# Altium schematic symbol library Component Library.SchLib: 14 symbols
Pins are listed as number, name and electrical type; pins without a type are passive.

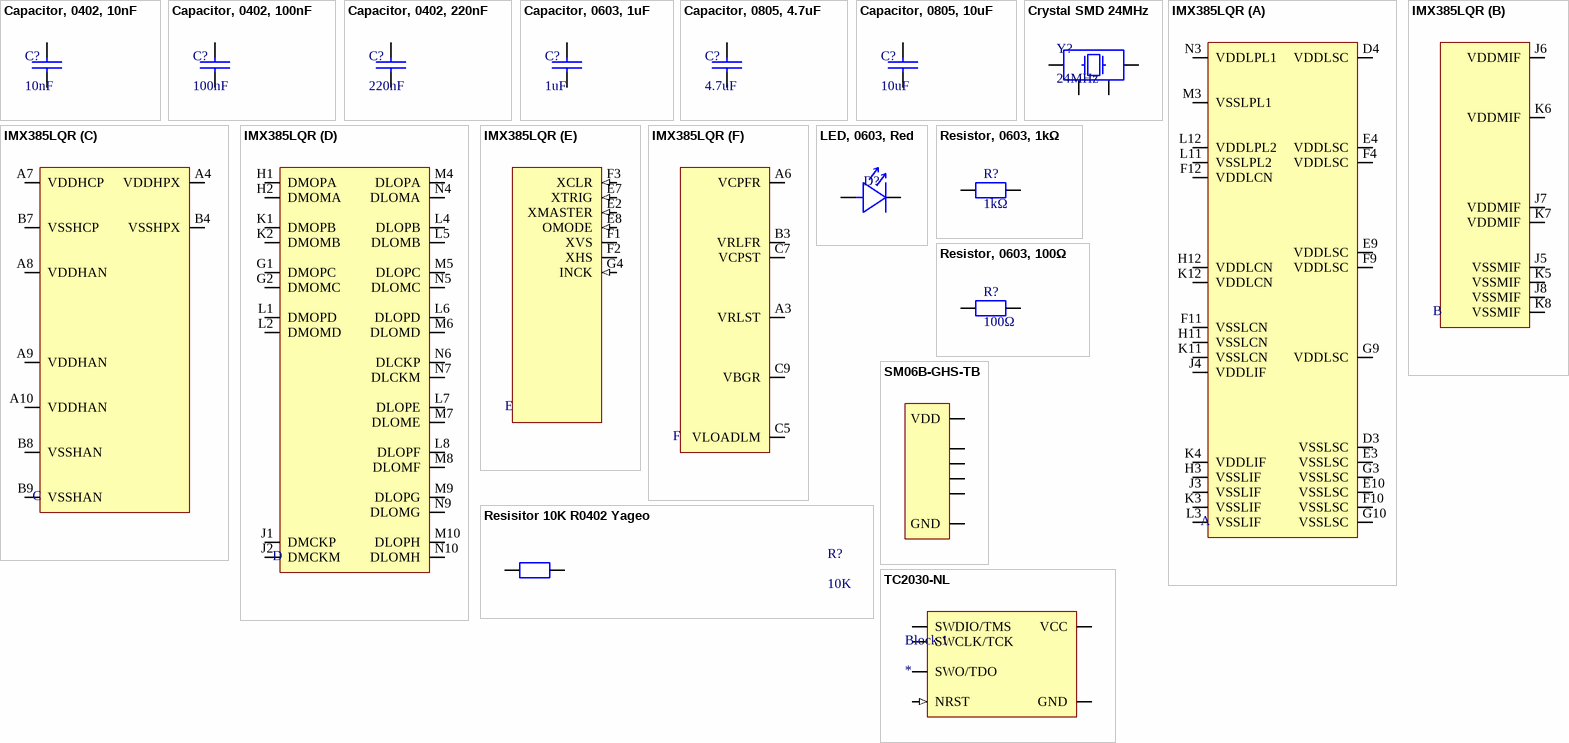
[diagram p0: symbols Capacitor, 0402, 10nF to TC2030-NL]

## Capacitor, 0402, 10nF
designator C?, comment 10nF
Ceramic Capacitor, 16V, 10% +/- Tol, X7R, 10nF, SMD, 0402, #CL05B103KO5NNNC, JLC#C318577; Capacitance: 100nF
footprint Capacitor, 0402, 10nF
pins: 9, 10

## Capacitor, 0402, 100nF
designator C?, comment 100nF
Ceramic Capacitor, 16V, 10% +/- Tol, X7R, 0.1uF, SMD, 0402, #CL05B104KO5NNNC, JLC#C1525; Capacitance: 100nF
footprint Capacitor, 0402, 100nF (Chip Capacitor, 2-Leads, Body 1.05x0.55mm, IPC Medium Density)
pins: 9, 10

## Capacitor, 0402, 220nF
designator C?, comment 220nF
Ceramic Capacitor, 16V, 10% +/- Tol, X7R, 220nF, SMD, 0402, #CL05B224KO5NNNC, JLC# / C16772; Capacitance: 100nF
footprint Capacitor, 0402, 220nF
pins: 9, 10

## Capacitor, 0603, 1uF
designator C?, comment 1uF
Ceramic Capacitor, 16V, 10% +/- Tol, X7R, 1uF, SMD, 0603, #CL10B105KO8NNNC, JLC#C59782; Capacitance: 100nF
footprint Capacitor, 0603, 1uF
pins: 9, 10

## Capacitor, 0805, 4.7uF
designator C?, comment 4.7uF
Ceramic Capacitor, 16V, 10% +/- Tol, X7R, 4.7uF, SMD, 0805, #CL21B475KOFNNNE, JLC#C107365; Capacitance: 100nF
footprint Capacitor, 0805, 4.7uF
pins: 9, 10

## Capacitor, 0805, 10uF
designator C?, comment 10uF
Ceramic Capacitor, 16V, 10% +/- Tol, X7R, 10uF, SMD, 0805, #CL21B106KOQNNNE, JLC#C95841; Capacitance: 100nF
footprint Capacitor, 0805, 10uF
pins: 9, 10

## Crystal SMD 24MHz
designator Y?, comment 24MHz
Crystal SMD 24MHz / X322524MOB4SI
footprint FP-ABM8G-MFG
pins: 3, 4, 5, 6

## IMX385LQR
designator ?
footprint IMX385LQR
part A pins: D3 VSSLSC, D4 VDDLSC, E3 VSSLSC, E4 VDDLSC, E9 VDDLSC, E10 VSSLSC, F4 VDDLSC, F9 VDDLSC, F10 VSSLSC, F11 VSSLCN, F12 VDDLCN, G3 VSSLSC, G9 VDDLSC, G10 VSSLSC, H3 VSSLIF, H11 VSSLCN, H12 VDDLCN, J3 VSSLIF, J4 VDDLIF, K3 VSSLIF, K4 VDDLIF, K11 VSSLCN, K12 VDDLCN, L3 VSSLIF, L11 VSSLPL2, L12 VDDLPL2, M3 VSSLPL1, N3 VDDLPL1
part B pins: J5 VSSMIF, J6 VDDMIF, J7 VDDMIF, J8 VSSMIF, K5 VSSMIF, K6 VDDMIF, K7 VDDMIF, K8 VSSMIF
part C pins: A4 VDDHPX, A7 VDDHCP, A8 VDDHAN, A9 VDDHAN, A10 VDDHAN, B4 VSSHPX, B7 VSSHCP, B8 VSSHAN, B9 VSSHAN
part D pins: G1 DMOPC, G2 DMOMC, H1 DMOPA, H2 DMOMA, J1 DMCKP, J2 DMCKM, K1 DMOPB, K2 DMOMB, L1 DMOPD, L2 DMOMD, L4 DLOPB, L5 DLOMB, L6 DLOPD, L7 DLOPE, L8 DLOPF, M4 DLOPA, M5 DLOPC, M6 DLOMD, M7 DLOME, M8 DLOMF, M9 DLOPG, M10 DLOPH, N4 DLOMA, N5 DLOMC, N6 DLCKP, N7 DLCKM, N9 DLOMG, N10 DLOMH
part E pins: E2 XMASTER (in), E7 XTRIG (in), E8 OMODE (in), F1 XVS (io), F2 XHS (io), F3 XCLR (in), G4 INCK (in)
part F pins: A3 VRLST, A6 VCPFR, B3 VRLFR, C5 VLOADLM, C7 VCPST, C9 VBGR

## LED, 0603, Red
designator D?
footprint Led, 0603
pins: 13, 14

## Resisitor 10K R0402 Yageo
designator R?, comment 10K
Fixed Resistor, Metal Glaze/thick Film, 0.0625W, 10000ohm, 50V, 1% +/-Tol, 100ppm/Cel, Surface Mount, 0402; Manufacturer: Yageo; Manufacturer Part Number: RC0603FR-0710KL; Additional Feature: LASER TRIMMABLE; Power: 100mW; Rated Temperature: 70°C; Value: 10kR; Working Voltage: 75V; Temperature Coefficient (ppm/Cel): 100; Package Height: 0.45mm; Package Length: 1.6mm; Package Width: 0.8mm; Supplier: Future Electronics; Supplier Part Number: 4023214; RoHS: Yes; Category: Chip SMD Resistors; Stock: 97670000; Pricing: 5000=0,0011, 25000=0,0011, 125000=0,001, 250000=0,001, 750000=0,001 (USD); Mounting Technology: Surface Mount; Pins: 2; Package Shape: Rectangular; Case/Package: 0603; Terminal Finish: Nickel; Min Operating Temperature: -55°C; Max Operating Temperature: 155°C; Tolerance: 1%; JESD-609 Code: e3; Resistor Type: FIXED RESISTOR; Construction: Chip; Packaging: Tape and Reel; Technology: METAL GLAZE/THICK FILM; Termination: Wraparound; Reach SVHC Compliant: Yes; RoHS Compliant: Yes; ComponentLink1URL: https://datasheet.ciiva.com:443/pdfs/VipMasterIC/IC/YAGO/YAGO-S-A0008145938/YAGO-S-A0008145938-1.pdf?src-supplier=IHS+Markit; ComponentLink1Description: https://datasheet.ciiva.com:443/pdfs/VipMasterIC/IC/YAGO/YAGO-S-A0008145938/YAGO-S-A0008145938-1.pdf?src-supplier=IHS+Markit; ComponentLink2URL: https://datasheet.ciiva.com/46440/1868787-46440891.pdf?src-supplier=Element14; ComponentLink2Description: https://datasheet.ciiva.com/46440/1868787-46440891.pdf?src-supplier=Element14; ComponentLink3URL: https://datasheet.ciiva.com/7746/1738695-7746239.pdf?src-supplier=Element14; ComponentLink3Description: https://datasheet.ciiva.com/7746/1738695-7746239.pdf?src-supplier=Element14; ComponentLink4URL: https://datasheet.ciiva.com/7983/443971-7983596.pdf?src-supplier=Element14; ComponentLink4Description: https://datasheet.ciiva.com/7983/443971-7983596.pdf?src-supplier=Element14; ComponentLink5URL: https://datasheet.ciiva.com/7660/38590-7660789.pdf?src-supplier=Element14; ComponentLink5Description: https://datasheet.ciiva.com/7660/38590-7660789.pdf?src-supplier=Element14; ComponentLink6URL: https://datasheet.ciiva.com/22747/443971-22747519.pdf?src-supplier=Element14; ComponentLink6Description: https://datasheet.ciiva.com/22747/443971-22747519.pdf?src-supplier=Element14; ComponentLink7URL: https://datasheet.ciiva.com/15189/getdatasheetpartid-409289-15189591.pdf?src-supplier=Verical; ComponentLink7Description: https://datasheet.ciiva.com/15189/getdatasheetpartid-409289-15189591.pdf?src-supplier=Verical; ComponentLink8URL: https://datasheet.ciiva.com/7660/38568-7660787.pdf?src-supplier=Element14; ComponentLink8Description: https://datasheet.ciiva.com/7660/38568-7660787.pdf?src-supplier=Element14; ComponentLink9URL: https://datasheet.ciiva.com/7849/1686128-7849814.pdf?src-supplier=Element14; ComponentLink9Description: https://datasheet.ciiva.com/7849/1686128-7849814.pdf?src-supplier=Element14; ComponentLink10URL: https://datasheet.ciiva.com/7983/1018594-7983486.pdf?src-supplier=Element14; ComponentLink10Description: https://datasheet.ciiva.com/7983/1018594-7983486.pdf?src-supplier=Element14; ComponentLink11URL: https://datasheet.ciiva.com/22747/1018594-22747512.pdf?src-supplier=Element14; ComponentLink11Description: https://datasheet.ciiva.com/22747/1018594-22747512.pdf?src-supplier=Element14; ComponentLink12URL: https://datasheet.ciiva.com/12667/pyu-rc0402-51-rohs-l-6-r-12667067.pdf?src-supplier=Mouser; ComponentLink12Description: https://datasheet.ciiva.com/12667/pyu-rc0402-51-rohs-l-6-r-12667067.pdf?src-supplier=Mouser; ComponentLink13URL: https://datasheet.ciiva.com/7849/1784430-7849813.pdf?src-supplier=Element14; ComponentLink13Description: https://datasheet.ciiva.com/7849/1784430-7849813.pdf?src-supplier=Element14; ComponentLink14URL: https://datasheet.ciiva.com/7849/1784430-7849815.pdf?src-supplier=Element14; ComponentLink14Description: https://datasheet.ciiva.com/7849/1784430-7849815.pdf?src-supplier=Element14
footprint Resistor 0402 Yageo (Chip Resistor, 2-Leads, Body 1,00x0,50mm, IPC Medium Density)
pins: 1, 2

## Resistor, 0603, 1kΩ
designator R?, comment 1kΩ
Thick Film Resistor, ±1%, ±100ppm/℃, -55℃~+155℃, 0603, 1kΩ, # / RC0603FR-071KL, JLC#C22548
footprint Resistor, 0603, 1k
pins: 1, 2

## Resistor, 0603, 100Ω
designator R?, comment 100Ω
Thick Film Resistor, ±1%, ±100ppm/℃, -55℃~+155℃, 0603, 100Ω, # / RC0603FR-07100RL, JLC#C105588
footprint Resistor, 0603, 100
pins: 1, 2

## SM06B-GHS-TB
designator *  (value not drawn)
footprint TAG_TC2030-IDC-NL
pins: 1 (io), 2 (io), 3 (io), 4 (io), GND, VDD

## TC2030-NL
designator Block 1
footprint SM06B-SRSS-TB
pins: 1 VCC, 2 GND, 3 SWDIO/TMS (io), 4 SWCLK/TCK (io), 5 SWO/TDO (io), 6 NRST (in)